# EAGLE library part LM3526-H (library caffeine)
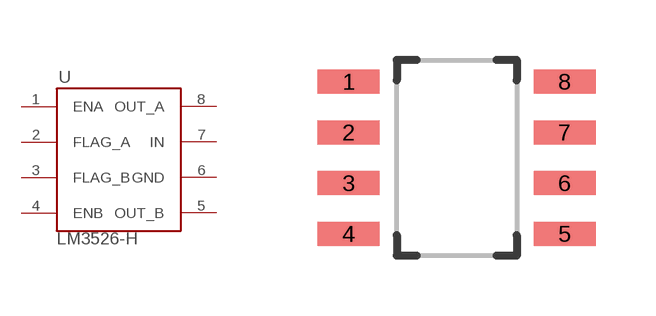
[diagram p3: symbol with the pads of SO-8; footprint SO-8]

Designator prefix -

## LM3526-H  [SO-8]
1  ENA  in
2  FLAG_A  out
3  FLAG_B  out
4  ENB  in
5  OUT_B  out
6  GND  pwr
7  IN  pwr
8  OUT_A  out

## Footprint SO-8 (pad centres in mm)
smd 1.55 x 0.6: 1 -2.7,1.905; 2 -2.7,0.635; 3 -2.7,-0.635; 4 -2.7,-1.905; 5 2.7,-1.905; 6 2.7,-0.635; 7 2.7,0.635; 8 2.7,1.905